# Altium schematic symbol library Op Amp - Dual.SchLib: 1 symbol
Pins are listed as number, name and electrical type; pins without a type are passive.

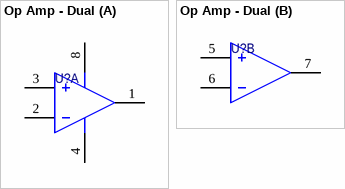
[diagram p0: symbol Op Amp - Dual]

## Op Amp - Dual
designator U?  (value not drawn)
part A pins: 1 OUTA, 2 -INA, 3 +INA, 4 V-, 8 V+
part B pins: 5 +INB, 6 -INB, 7 OUTB